# Altium schematic symbol library RN4678-VRM113.SchLib: 2 symbols
Pins are listed as number, name and electrical type; pins without a type are passive.

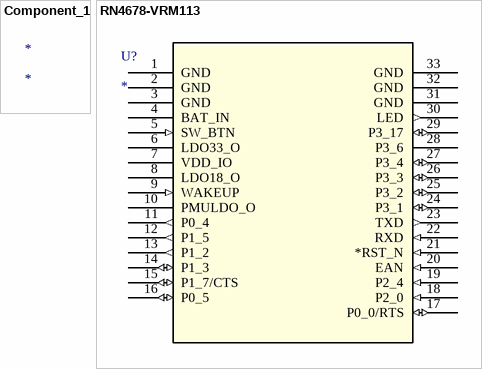
[diagram p0: symbols Component_1 to RN4678-VRM113]

## Component_1
designator *

## RN4678-VRM113
designator U?
No Description Available; Mfr_Name: Microchip; RefDes: RefDes; Type: Type
footprint RN4678_MCH
pins: 1 GND (power), 2 GND (power), 3 GND (power), 4 BAT_IN (power), 5 SW_BTN (in), 6 LDO33_O (power), 7 VDD_IO (power), 8 LDO18_O (power), 9 WAKEUP (in), 10 PMULDO_O (power), 11 P0_4 (out), 12 P1_5 (out), 13 P1_2 (out), 14 P1_3 (io), 15 P1_7/CTS (io), 16 P0_5 (io), 17 P0_0/RTS (io), 18 P2_0 (in), 19 P2_4 (in), 20 EAN (in), 21 *RST_N (in), 22 RXD (in), 23 TXD (out), 24 P3_1 (io), 25 P3_2 (io), 26 P3_3 (io), 27 P3_4 (io), 28 P3_6, 29 P3_17 (io), 30 LED (out), 31 GND (power), 32 GND (power), 33 GND (power)